# EAGLE library part 2X17HEADER (library raspberrystem)
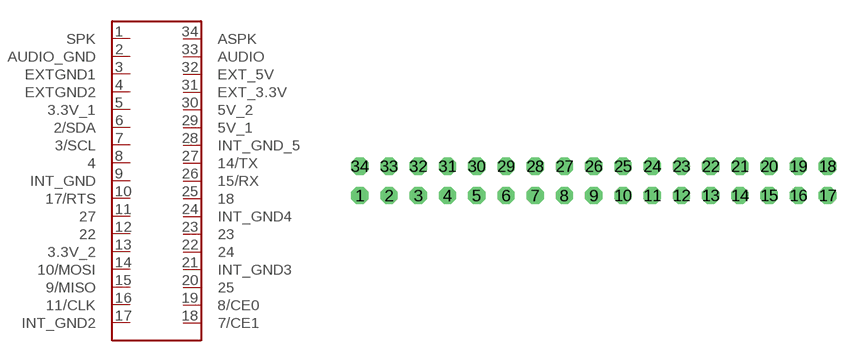
[diagram p5: symbol with the pads of 2X32HEADER; footprint 2X32HEADER]

Designator prefix -

## 2X17HEADER  [2X32HEADER]
1  SPK  out
2  AUDIO_GND  out
3  EXTGND1  out
4  EXTGND2  out
5  3.3V_1  out
6  2/SDA  out
7  3/SCL  out
8  4  out
9  INT_GND  out
10  17/RTS  out
11  27  out
12  22  out
13  3.3V_2  out
14  10/MOSI  out
15  9/MISO  out
16  11/CLK  out
17  INT_GND2  out
18  7/CE1  out
19  8/CE0  out
20  25  out
21  INT_GND3  out
22  24  out
23  23  out
24  INT_GND4  out
25  18  out
26  15/RX  out
27  14/TX  out
28  INT_GND_5  out
29  5V_1  out
30  5V_2  out
31  EXT_3.3V  out
32  EXT_5V  out
33  AUDIO  out
34  ASPK  out

## Footprint 2X32HEADER (pad centres in mm)
drill 1 octagon: 1 -20.32,-1.27; 2 -17.78,-1.27; 3 -15.24,-1.27; 4 -12.7,-1.27; 5 -10.16,-1.27; 6 -7.62,-1.27; 7 -5.08,-1.27; 8 -2.54,-1.27; 9 0,-1.27; 10 2.54,-1.27; 11 5.08,-1.27; 12 7.62,-1.27; 13 10.16,-1.27; 14 12.7,-1.27; 15 15.24,-1.27; 16 17.78,-1.27; 17 20.32,-1.27; 18 20.32,1.27; 19 17.78,1.27; 20 15.24,1.27; 21 12.7,1.27; 22 10.16,1.27; 23 7.62,1.27; 24 5.08,1.27; 25 2.54,1.27; 26 0,1.27; 27 -2.54,1.27; 28 -5.08,1.27; 29 -7.62,1.27; 30 -10.16,1.27; 31 -12.7,1.27; 32 -15.24,1.27; 33 -17.78,1.27; 34 -20.32,1.27